# EAGLE library part RJ45 (library magzor)
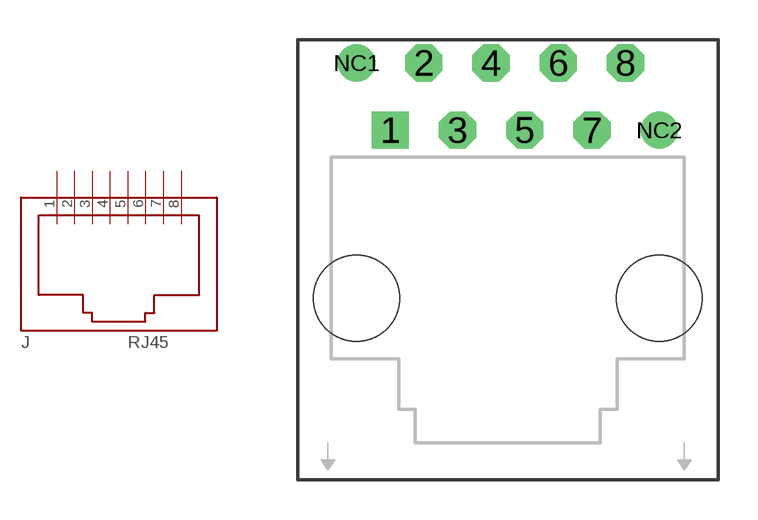
[diagram p2: symbol with the pads of RJ45-TE; footprint RJ45-TE]

Designator prefix J

## RJ45-MOLEX-42878-1001  [RJ45-TE]
1  1
2  2
3  3
4  4
5  5
6  6
7  7
8  8

## Footprint RJ45-TE (pad centres in mm)
RJ45 top entry (roughly same size as side entry) Molex 42878-1001
drill 0.9 square: 1 -4.445,4.839
drill 0.9 octagon: 2 -3.175,7.379; 3 -1.905,4.839; 4 -0.635,7.379; 5 0.635,4.839; 6 1.905,7.379; 7 3.175,4.839; 8 4.445,7.379
drill 0.9: NC1 -5.715,7.379; NC2 5.715,4.839
hole 3.251 at 5.715,-1.511
hole 3.251 at -5.715,-1.511